# Altium schematic symbol library Schematic_Oscillator.SchLib: 2 symbols
Pins are listed as number, name and electrical type; pins without a type are passive.

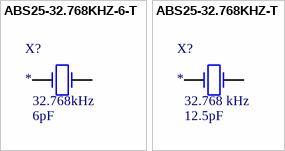
[diagram p0: symbols ABS25-32.768KHZ-6-T to ABS25-32.768KHZ-T]

## ABS25-32.768KHZ-6-T
designator X?  Load Capacitance: 6pF  Frequency: 32.768kHz
Crystal, Plastic Molded 32.768Khz, 6Pf, 20Ppm-40+85C, 8 X 3.8 X 2.5 Rohs Compliant: Yes; Manufacturer: Abracon; Manufacturer Part Number: ABS25-32.768KHZ-6-T; Frequency Tolerance: 20ppm; ESR (Equivalent Series Resistance): 50kR; Insulation Resistance: 500MR; Supplier 1: Digikey; RoHS: Yes; Category: Crystals; Stock 1: 66518; Pricing 1: 1=0.61, 10=0.548, 50=0.5328, 100=0.4924, 500=0.47446 (USD); Mounting Technology: Surface Mount; Case/Package: SMD/SMT; Pins: 4; Min Operating Temperature: -40°C; Max Operating Temperature: 85°C; Package Quantity: 3000; Packaging: Tape and Reel; Termination: SMD/SMT; Series: ABS25; Tolerance: 20ppm; ESR: 50kR; Operating Frequency: 32.768 kHz; Length: 8mm; Width: 3.8mm; Height: 2.5mm; Depth: 3.8mm; Radiation Hardening: No; Reach SVHC Compliant: No; RoHS Compliant: Yes; Lead Free: Lead Free; ComponentLink1URL: https://datasheet.ciiva.com/854/abs25-854528.pdf?src-supplier=Digikey; ComponentLink1Description: https://datasheet.ciiva.com/854/abs25-854528.pdf?src-supplier=Digikey; ComponentLink2URL: https://datasheet.ciiva.com/854/abs25-854527.pdf?src-supplier=Digikey; ComponentLink2Description: https://datasheet.ciiva.com/854/abs25-854527.pdf?src-supplier=Digikey; ComponentLink3URL: https://datasheet.ciiva.com/854/abs25-854529.pdf?src-supplier=Digikey; ComponentLink3Description: https://datasheet.ciiva.com/854/abs25-854529.pdf?src-supplier=Digikey
footprint SOJ550P410X260-4N (SOJ, 4-Leads, Body 8.40x4.05mm, Pitch 5.50mm, IPC Medium Density)
pins: 1, 4

## ABS25-32.768KHZ-T
designator X?  Load Capacitance: 12.5pF  Operating Frequency: 32.768 kHz
Crystal, Plastic Molded 32.768Khz, 12.5F, 20Ppm-40+85C, 8 X 4 X 2.5 Rohs Compliant: Yes; Manufacturer: Abracon; Manufacturer Part Number: ABS25-32.768KHZ-T; Frequency Tolerance: 20ppm; ESR: 50kR; Supplier 1: Digikey; RoHS: Yes; Category: Crystals; Stock 1: 98009; Pricing 1: 1=0.47, 10=0.406, 50=0.3686, 100=0.3533, 500=0.32024, 1000=0.307, 3000=0.25432 (USD); Mounting Technology: Surface Mount; Case/Package: SMD/SMT; Pins: 4; Min Operating Temperature: -40°C; Max Operating Temperature: 85°C; Frequency: 32.768kHz; Packaging: Tape and Reel; ESR (Equivalent Series Resistance): 50kR; Package Quantity: 1000; Tolerance: 20ppm; Termination: SMD/SMT; Series: ABS25; Length: 8mm; Width: 3.8mm; Height: 2.5mm; Depth: 3.8mm; Radiation Hardening: No; Reach SVHC Compliant: No; Lead Free: Lead Free; RoHS Compliant: Yes
footprint SOJ550P410X260-4N (SOJ, 4-Leads, Body 8.40x4.05mm, Pitch 5.50mm, IPC Medium Density)
pins: 1, 4